# Altium footprint library a_Valider_LDG.PcbLib: 5 footprints
Each footprint in its own frame and in the unit in brackets; x right, y up, seen from the top. Pads: shape width x height; smd on the part's side, far side on the other; paste and mask are expansions set on the pad; w line width, h text height; cw(c..) or ccw(c..) is an arc to the next point about the centre after c.
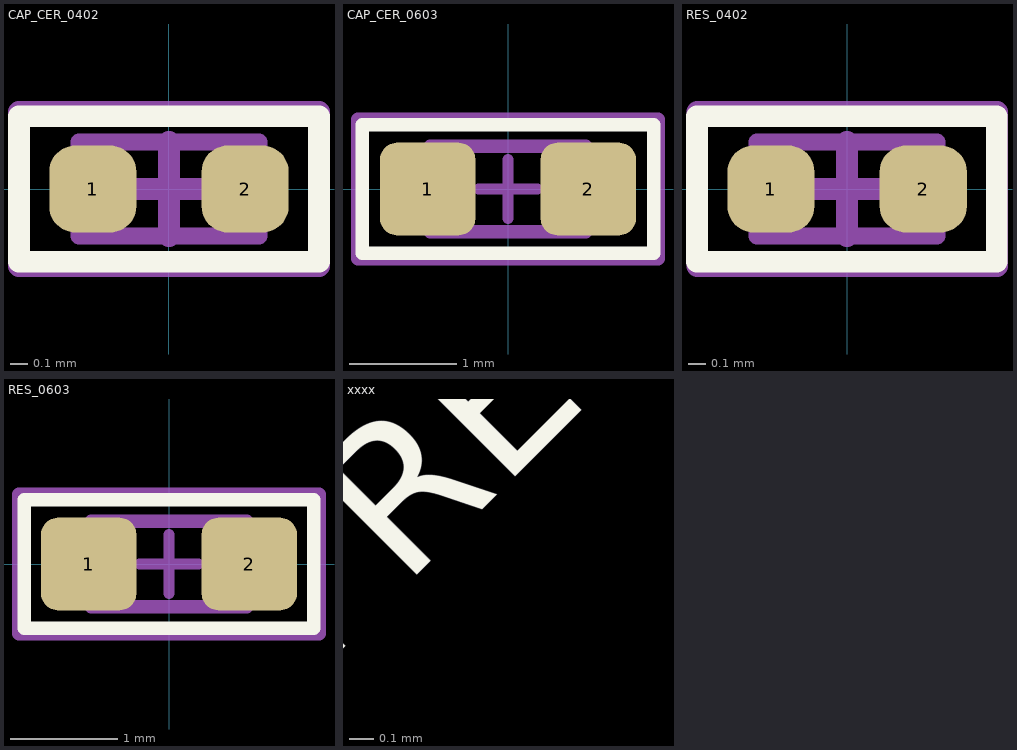
[diagram p0: the footprints below, top view; thin cyan lines are the x and y axes]

## CAP_CER_0402 [mil] "Ceramic Capacitor - 0402"
height 23.62
pads (2):
  rrect60% 20x20 smd paste+0 mask+1.97: 1(-17.5,0) 2(17.5,0)
Top Overlay:
  lines w5: -34.45,-16.73 -34.45,16.73 34.46,16.73 34.46,-16.73 -34.45,-16.73
Top Assembly Drawing:
  lines w3.94: -20.67,-10.83 -20.67,10.83 20.67,10.83 20.67,-10.83 -20.67,-10.83
Top Courtyard:
  lines w5: -10.83,0 10.83,0 ; 0,-10.83 0,10.83 ; -34.45,-17.72 34.45,-17.72 34.45,17.72 -34.45,17.72 -34.45,-17.72
3D body "Cap0402.step": height 19.68, standoff 0, extent -19.37,-9.69 20,10

## CAP_CER_0603 [mil] "Ceramic Capacitor - 0603"
height 31.5
pads (2):
  rrect35% 35x34 smd paste+0 mask+1.97: 1(-29.5,0) 2(29.5,0)
Top Overlay:
  lines w5: -53.58,-23.62 -53.58,23.62 53.59,23.62 53.59,-23.62 -53.58,-23.62
Top Assembly Drawing:
  lines w5: -28.54,-15.75 -28.54,15.75 28.54,15.75 28.54,-15.75 -28.54,-15.75
Top Courtyard:
  lines w3.94: -10.83,0 10.83,0 ; 0,-10.83 0,10.83
  lines w5: -55.12,-25.59 -55.12,25.59 55.12,25.59 55.12,-25.59 -55.12,-25.59
3D body "Cap0603.step": height 35.43, standoff 0, extent -31.5,-15.75 31.5,15.75

## RES_0402 [mil] "Resistor - 0402"
height 13.78
pads (2):
  rrect60% 20x20 smd paste+0 mask+1.97: 1(-17.5,0) 2(17.5,0)
Top Overlay:
  lines w5: -34.48,-16.73 34.41,-16.73 34.41,16.73 -34.48,16.73 -34.48,-16.73
Top Assembly Drawing:
  lines w3.94: -20.67,-10.83 20.67,-10.83 20.67,10.83 -20.67,10.83 -20.67,-10.83
Top Courtyard:
  lines w5: -10.83,0 10.83,0 ; 0,-10.83 0,10.83 ; -34.45,-17.72 -34.45,17.72 34.45,17.72 34.45,-17.72 -34.45,-17.72
3D body "User Library-User Library-RES0402-2.STEP": height 12.99, standoff -0.79, extent -19.68,-9.84 19.7,9.85

## RES_0603 [mil] "Resistor - 0603"
height 17.72
pads (2):
  rrect35% 35x34 smd paste+0 mask+1.97: 1(-29.5,0) 2(29.5,0)
Top Overlay:
  lines w5: -53.15,-23.62 -53.15,23.62 53.15,23.62 53.15,-23.62 -53.15,-23.62
Top Assembly Drawing:
  lines w5: -28.54,-15.75 -28.54,15.75 28.54,15.75 28.54,-15.75 -28.54,-15.75
Top Courtyard:
  lines w3.94: -10.83,0 10.83,0 ; 0,-10.83 0,10.83
  lines w5: -55.12,-25.59 -55.12,25.59 55.12,25.59 55.12,-25.59 -55.12,-25.59
3D body "RES0603.stp": height 16.93, standoff -0.79, extent -31.49,-15.74 31.51,15.76

## xxxx [mil]
Top Overlay:
  text "PRELIMINARY" at -97,-118 h49.21